# Altium schematic symbol library 890334024005.SchLib: 1 symbol
Pins are listed as number, name and electrical type; pins without a type are passive.

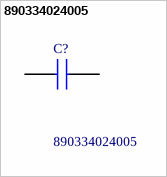
[diagram p0: symbol 890334024005]

## 890334024005
designator C?
Wurth Elektronik 470nF Polypropylene Capacitor PP 310V ac +/-10% Tolerance WCAP-FTXX Series; Geometry.Height: 16.5mm; Manufacturer_Name: Wurth Elektronik; Manufacturer_Part_Number: 890334024005; Mouser Part Number: 710-890334024005; Mouser Price/Stock: https://www.mouser.co.uk/ProductDetail/Wurth-Elektronik/890334024005?qs=pceeu5JH%2FH931a333DfnpQ%3D%3D; Arrow Part Number: *; Arrow Price/Stock: *; Mouser Testing Part Number: *; Mouser Testing Price/Stock: *; Datasheet Link: https://katalog.we-online.de/pbs/datasheet/890334024005.pdf
footprint 890334024005
pins: 1, 2